# EAGLE library part DIP-RJ11-CONNECTOR (library Seeed-OPL-Connector)
320140002
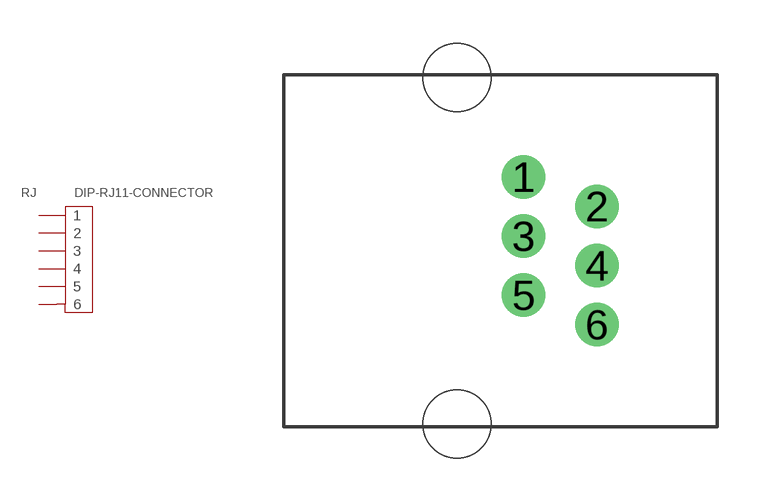
[diagram p151: symbol with the pads of RJ11--12.2X15X14.5MM; footprint RJ11--12.2X15X14.5MM]

Designator prefix RJ

## DIP-RJ11-CONNECTOR (VALUE: RJ11-12.2X15X14.5MM)  [RJ11--12.2X15X14.5MM]
1  1
2  2
3  3
4  4
5  5
6  6

## Footprint RJ11--12.2X15X14.5MM (pad centres in mm)
drill 0.8 pad 1.5: 1 0.8,2.55; 2 3.34,1.53; 3 0.8,0.51; 4 3.34,-0.51; 5 0.8,-1.53; 6 3.34,-2.55
hole 2.36 at -1.5,6
hole 2.36 at -1.5,-6